# Altium schematic symbol library 744242471.SchLib: 1 symbol
Pins are listed as number, name and electrical type; pins without a type are passive.

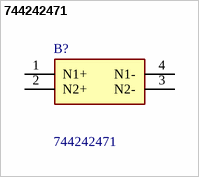
[diagram p0: symbol 744242471]

## 744242471
designator B?
470 H @ 100 kHz 2 Line Common Mode Choke Surface Mount 2.2 kOhms @ 15 MHz 400mA DCR 350mOhm; Manufacturer_Name: Wurth Elektronik; Geometry.Height: 3.6mm; Mouser Part Number: 710-744242471; Mouser Price/Stock: https://www.mouser.co.uk/ProductDetail/Wurth-Elektronik/744242471?qs=PGXP4M47uW7UIiGXUC0ZiA%3D%3D; Manufacturer_Part_Number: 744242471; Datasheet Link: https://www.we-online.com/components/products/datasheet/744242471.pdf
footprint 744242471
pins: 1 N1+, 2 N2+, 3 N2-, 4 N1-